# Altium schematic symbol library wurth.SchLib: 5 symbols
Pins are listed as number, name and electrical type; pins without a type are passive.

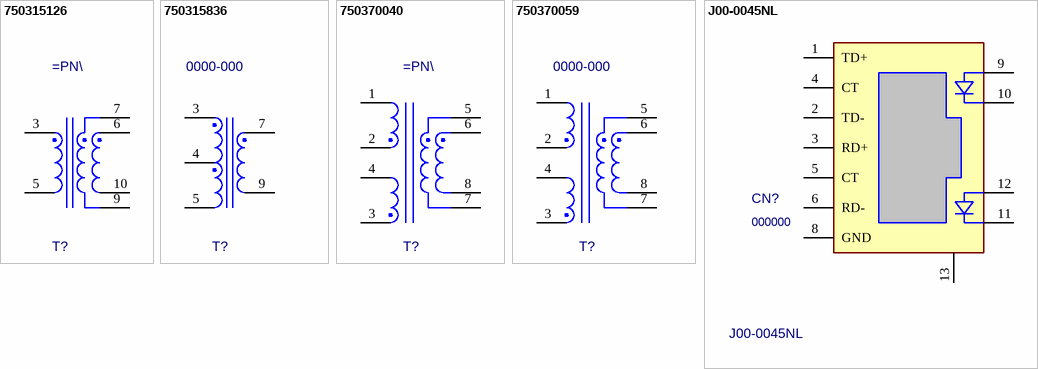
[diagram p0: symbols 750315126 to J00-0045NL]

## 750315126
designator T?
SMD Transformer; Value: 750315126; PN: 0000-000; MF: Wurth; ExtraInfo: *
footprint 75031583X (SMD Transformer 17.75x13.46x12.7mm)
pins: 3, 5, 6, 7, 9, 10

## 750315836
designator T?, comment 0000-000
SMD Transformer; Value: 750315836; MF: Wurth; PN: 0000-000; ExtraInfo: *; Package: *
footprint 75031583X (SMD Transformer 17.75x13.46x12.7mm)
pins: 3, 4, 5, 7, 9

## 750370040
designator T?
SMD Transformer; Value: 750370040; PN: 0000-000; MF: Wurth; ExtraInfo: *
footprint 75037004X (SMD Transformer 9.14x9.78x10.54mm)
pins: 1, 2, 3, 4, 5, 6, 7, 8

## 750370059
designator T?, comment 0000-000
SMD Transformer; Value: 750370059; MF: Wurth; PN: 0000-000; ExtraInfo: *; Package: *
footprint 75037005X (SMD Transformer 13.35x10.8x9.14mm)
pins: 1, 2, 3, 4, 5, 6, 7, 8

## J00-0045NL
designator CN?, comment 000000  value J00-0045NL
10/100Base-TX surface mount RJ45; Package: PTH; PN: 000000; ExtraInfo: *
footprint MOD-J0 (Modular Jack, Right Angle, Fully Shielded, True SMT)
pins: 1 TD+, 2 TD-, 3 RD+, 4 CT, 5 CT, 6 RD-, 8 GND, 9 A2, 10 K2, 11 K1, 12 A1, 13 SHIELD